# EAGLE library part STM32F446VET6 (library BA Parts)
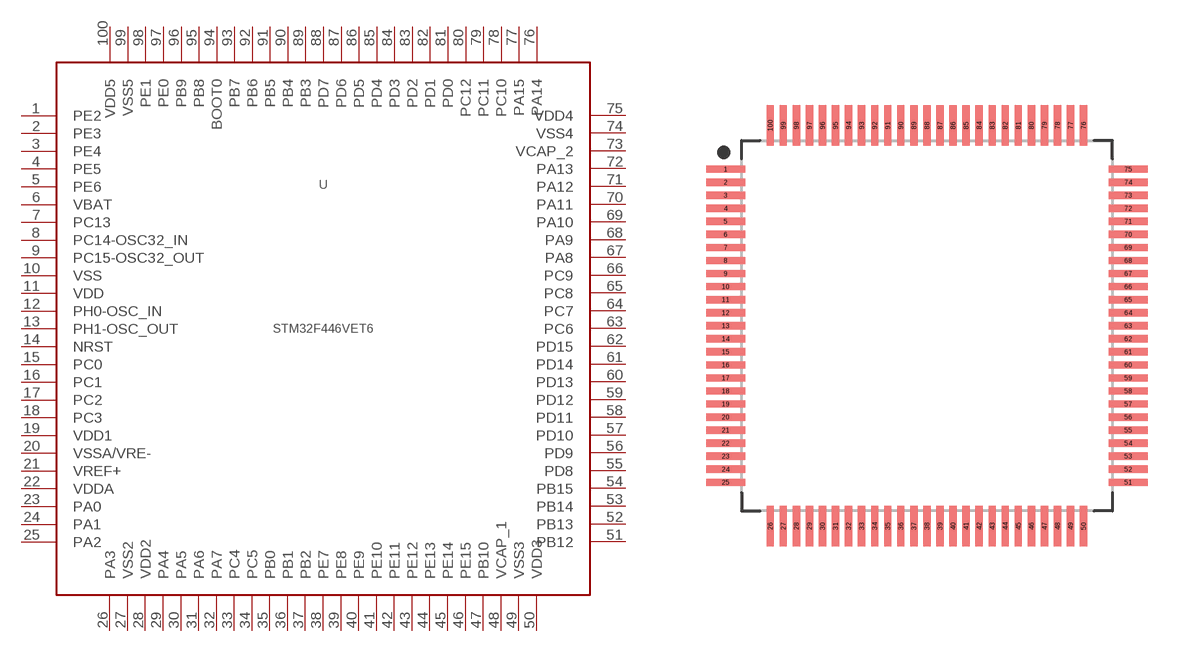
[diagram p4: symbol with the pads of QFP50P1600X1585X160-100N; footprint QFP50P1600X1585X160-100N]

Designator prefix -

## STM32F446VET6  [QFP50P1600X1585X160-100N]
1  PE2
2  PE3
3  PE4
4  PE5
5  PE6
6  VBAT
7  PC13
8  PC14-OSC32_IN
9  PC15-OSC32_OUT
10  VSS
11  VDD
12  PH0-OSC_IN
13  PH1-OSC_OUT
14  NRST
15  PC0
16  PC1
17  PC2
18  PC3
19  VDD1
20  VSSA/VRE-
21  VREF+
22  VDDA
23  PA0
24  PA1
25  PA2
26  PA3
27  VSS2
28  VDD2
29  PA4
30  PA5
31  PA6
32  PA7
33  PC4
34  PC5
35  PB0
36  PB1
37  PB2
38  PE7
39  PE8
40  PE9
41  PE10
42  PE11
43  PE12
44  PE13
45  PE14
46  PE15
47  PB10
48  VCAP_1
49  VSS3
50  VDD3
51  PB12
52  PB13
53  PB14
54  PB15
55  PD8
56  PD9
57  PD10
58  PD11
59  PD12
60  PD13
61  PD14
62  PD15
63  PC6
64  PC7
65  PC8
66  PC9
67  PA8
68  PA9
69  PA10
70  PA11
71  PA12
72  PA13
73  VCAP_2
74  VSS4
75  VDD4
76  PA14
77  PA15
78  PC10
79  PC11
80  PC12
81  PD0
82  PD1
83  PD2
84  PD3
85  PD4
86  PD5
87  PD6
88  PD7
89  PB3
90  PB4
91  PB5
92  PB6
93  PB7
94  BOOT0
95  PB8
96  PB9
97  PE0
98  PE1
99  VSS5
100  VDD5

## Footprint QFP50P1600X1585X160-100N (pad centres in mm)
100-QFP, 0.50 mm pitch, 16.00 mm lead span1, 15.85 mm lead span2, 14.00 X 14.00 X 1.60 mm body 100-pin QFP package with 0.50 mm pitch, 16.00 mm lead span1 X 15.85 mm lead span2 with body size 14.00 X 14.00 X 1.60 mm
smd 1.488 x 0.28: 1 -7.71,6; 2 -7.71,5.5; 3 -7.71,5; 4 -7.71,4.5; 5 -7.71,4; 6 -7.71,3.5; 7 -7.71,3; 8 -7.71,2.5; 9 -7.71,2; 10 -7.71,1.5; 11 -7.71,1; 12 -7.71,0.5; 13 -7.71,0; 14 -7.71,-0.5; 15 -7.71,-1; 16 -7.71,-1.5; 17 -7.71,-2; 18 -7.71,-2.5; 19 -7.71,-3; 20 -7.71,-3.5; 21 -7.71,-4; 22 -7.71,-4.5; 23 -7.71,-5; 24 -7.71,-5.5; 25 -7.71,-6; 51 7.71,-6; 52 7.71,-5.5; 53 7.71,-5; 54 7.71,-4.5; 55 7.71,-4; 56 7.71,-3.5; 57 7.71,-3; 58 7.71,-2.5; 59 7.71,-2; 60 7.71,-1.5; 61 7.71,-1; 62 7.71,-0.5; 63 7.71,0; 64 7.71,0.5; 65 7.71,1; 66 7.71,1.5; 67 7.71,2; 68 7.71,2.5; 69 7.71,3; 70 7.71,3.5; 71 7.71,4; 72 7.71,4.5; 73 7.71,5; 74 7.71,5.5; 75 7.71,6
smd 0.28 x 1.559: 26 -6,-7.678; 27 -5.5,-7.678; 28 -5,-7.678; 29 -4.5,-7.678; 30 -4,-7.678; 31 -3.5,-7.678; 32 -3,-7.678; 33 -2.5,-7.678; 34 -2,-7.678; 35 -1.5,-7.678; 36 -1,-7.678; 37 -0.5,-7.678; 38 0,-7.678; 39 0.5,-7.678; 40 1,-7.678; 41 1.5,-7.678; 42 2,-7.678; 43 2.5,-7.678; 44 3,-7.678; 45 3.5,-7.678; 46 4,-7.678; 47 4.5,-7.678; 48 5,-7.678; 49 5.5,-7.678; 50 6,-7.678; 76 6,7.678; 77 5.5,7.678; 78 5,7.678; 79 4.5,7.678; 80 4,7.678; 81 3.5,7.678; 82 3,7.678; 83 2.5,7.678; 84 2,7.678; 85 1.5,7.678; 86 1,7.678; 87 0.5,7.678; 88 0,7.678; 89 -0.5,7.678; 90 -1,7.678; 91 -1.5,7.678; 92 -2,7.678; 93 -2.5,7.678; 94 -3,7.678; 95 -3.5,7.678; 96 -4,7.678; 97 -4.5,7.678; 98 -5,7.678; 99 -5.5,7.678; 100 -6,7.678